# Altium schematic symbol library QDSP-6064.SchLib: 1 symbol
Pins are listed as number, name and electrical type; pins without a type are passive.

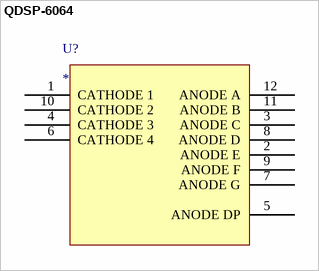
[diagram p0: symbol QDSP-6064]

## QDSP-6064
designator U?
HP 4-Digit LED Bubble Display
pins: 1 CATHODE 1, 2 ANODE E, 3 ANODE C, 4 CATHODE 3, 5 ANODE DP, 6 CATHODE 4, 7 ANODE G, 8 ANODE D, 9 ANODE F, 10 CATHODE 2, 11 ANODE B, 12 ANODE A